# EAGLE library part SLC-F11DDA-T1 (library LED-SANYO)
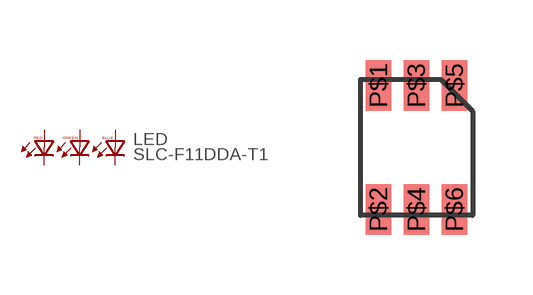
[diagram p0: symbol with the pads of SLC-F11DDA-T1; footprint SLC-F11DDA-T1]

Designator prefix LED

## SLC-F11DDA-T1  [SLC-F11DDA-T1]
P$1  BA  pas
P$2  BC  pas
P$3  RA  pas
P$4  RC  pas
P$5  GA  pas
P$6  GC  pas

## Footprint SLC-F11DDA-T1 (pad centres in mm)
smd 0.635 x 1.27: P$1 -0.95,1.55; P$2 -0.95,-1.55; P$3 0,1.55; P$4 0,-1.55; P$5 0.95,1.55; P$6 0.95,-1.55